# Altium integrated library MAX809SEXR-T.IntLib: 1 symbol
Pins are listed as number, name and electrical type; pins without a type are passive.

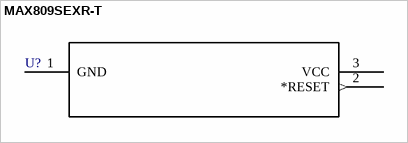
[diagram p0: symbol MAX809SEXR-T]

## MAX809SEXR-T
designator U?  (value not drawn)
PMIC - system monitor Maxim Integrated MAX809SEXR+T Reset/power-on reset SC 70 3; Availability: Good; Package: SC-70-3 Maxim Integrated; MP: MAX809SEXR+T; Price: 2.42 USD; MF: Maxim Integrated; Value: *
footprint 21-0075D
pins: 1 GND (power), 2 *RESET (out), 3 VCC (power)